# Altium schematic symbol library TI CSD MOSFET N-CH Q5.SchLib: 1 symbol
Pins are listed as number, name and electrical type; pins without a type are passive.

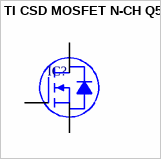
[diagram p0: symbol TI CSD MOSFET N-CH Q5]

## TI CSD MOSFET N-CH Q5
designator IC?
pins: 1 S, 2 S, 3 S, 4 G, 5 D, 6 D, 7 D, 8 D